# Altium footprint library FM349readerV011.PcbLib: 22 footprints (part 2 of 2)
Each footprint in its own frame and in the unit in brackets; x right, y up, seen from the top. Pads: shape width x height; smd on the part's side, far side on the other; paste and mask are expansions set on the pad; w line width, h text height; cw(c..) or ccw(c..) is an arc to the next point about the centre after c.
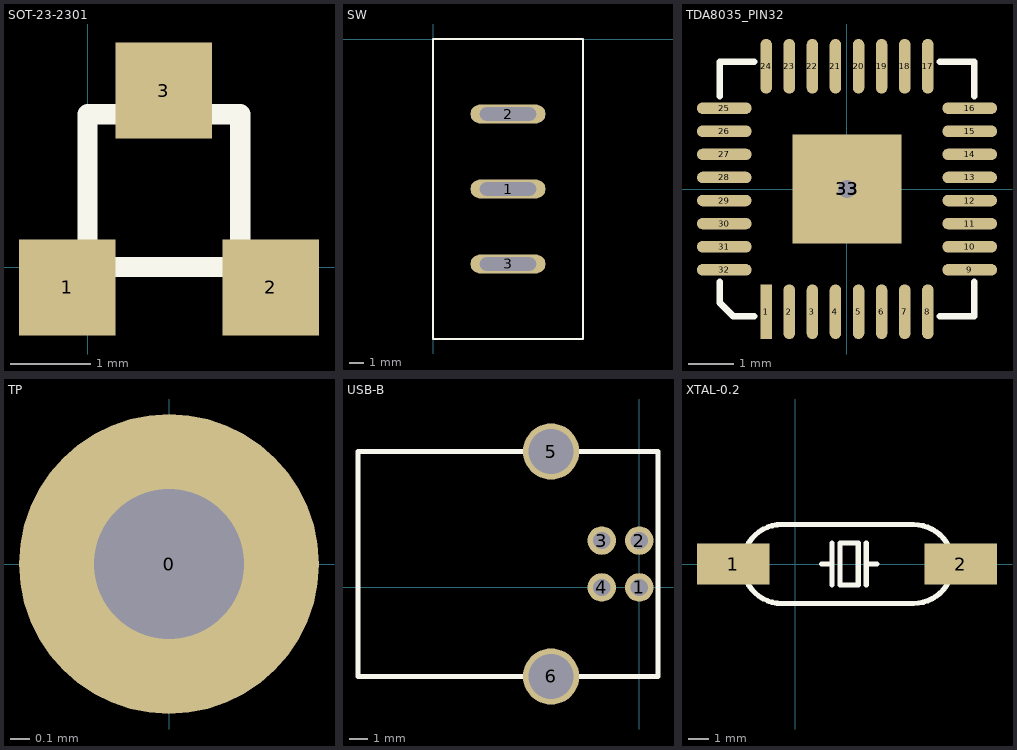
[diagram p1: the footprints below, top view; thin cyan lines are the x and y axes]

## SOT-23-2301 [mm]
pads (3):
  rect 1.2x1.2 smd: 1(-0.254,-0.254) 2(2.286,-0.254) 3(0.95,2.2)
Top Overlay:
  lines w0.254: 0,0 0,1.905 1.905,1.905 1.905,0 0,0

## SW [mil]
pads (3):
  oval 200x50 hole 35 slot 150 at 0 deg: 1(200,-400) 2(200,-200) 3(200,-600)
Top Overlay:
  lines w5: 0,-800 400,-800 400,0 0,0 0,-800

## TDA8035_PIN32 [mm]
pads (34):
  rect 0.254x1.2 smd: 1(-1.777,-2.694)
  oval 0.254x1.2 smd: 2(-1.269,-2.694) 3(-0.761,-2.694) 4(-0.253,-2.694) 5(0.255,-2.694) 6(0.763,-2.694) 7(1.271,-2.694) 8(1.779,-2.694) 17(1.779,2.706) 18(1.271,2.706) 19(0.763,2.706) 20(0.255,2.706) 21(-0.253,2.706) 22(-0.761,2.706) 23(-1.269,2.706) 24(-1.777,2.706)
  oval 1.2x0.254 smd: 9(2.701,-1.772) 10(2.701,-1.264) 11(2.701,-0.756) 12(2.701,-0.248) 13(2.701,0.26) 14(2.701,0.768) 15(2.701,1.276) 16(2.701,1.784) 25(-2.699,1.784) 26(-2.699,1.276) 27(-2.699,0.768) 28(-2.699,0.26) 29(-2.699,-0.248) 30(-2.699,-0.756) 31(-2.699,-1.264) 32(-2.699,-1.772)
  rect 2.4x2.4 smd: 33(0.001,0.006)
  round 0.6 hole 0.4: 33(0.001,0.006)
Top Overlay:
  lines w0.152: -2.799,-2.044 -2.799,-2.494 -2.499,-2.794 -2.049,-2.794 ; -2.799,2.056 -2.799,2.806 -2.049,2.806 ; 2.051,-2.794 2.801,-2.794 2.801,-2.044 ; 2.051,2.806 2.801,2.806 2.801,2.056

## TP [mil]
pads (1):
  round 60 hole 30: 0(0,0)

## USB-B [mm]
height 8.2
pads (6):
  round 1.524 hole 0.92: 1(0,0) 2(0,2.5) 3(-2,2.5) 4(-2,0)
  round 3 hole 2.4: 5(-4.7,7.25) 6(-4.7,-4.75)
Top Overlay:
  lines w0.254: -15,-4.75 -15,7.25 1,7.25 1,-4.75 -15,-4.75

## XTAL-0.2 [mm]
pads (2):
  rect 3.5x2 smd: 1(-3,0) 2(8,0)
Top Overlay:
  lines w0.254: -0.635,-1.913 cw(c-0.635,0) -0.635,1.913 5.713,1.913 5.715,1.911 ; -0.635,-1.905 5.715,-1.905 ccw(c5.715,0) 5.715,1.905 ; 1.27,0 1.778,0 ; 1.778,-1.016 1.778,1.016 ; 3.429,-1.016 3.429,1.016 ; 3.429,0 3.937,0 ; 2.159,-1.016 3.048,-1.016 3.048,1.016 2.159,1.016 2.159,-1.016